# Altium footprint library PCBLIB.PcbLib: 1 footprints
Each footprint in its own frame and in the unit in brackets; x right, y up, seen from the top. Pads: shape width x height; smd on the part's side, far side on the other; paste and mask are expansions set on the pad; w line width, h text height; cw(c..) or ccw(c..) is an arc to the next point about the centre after c.
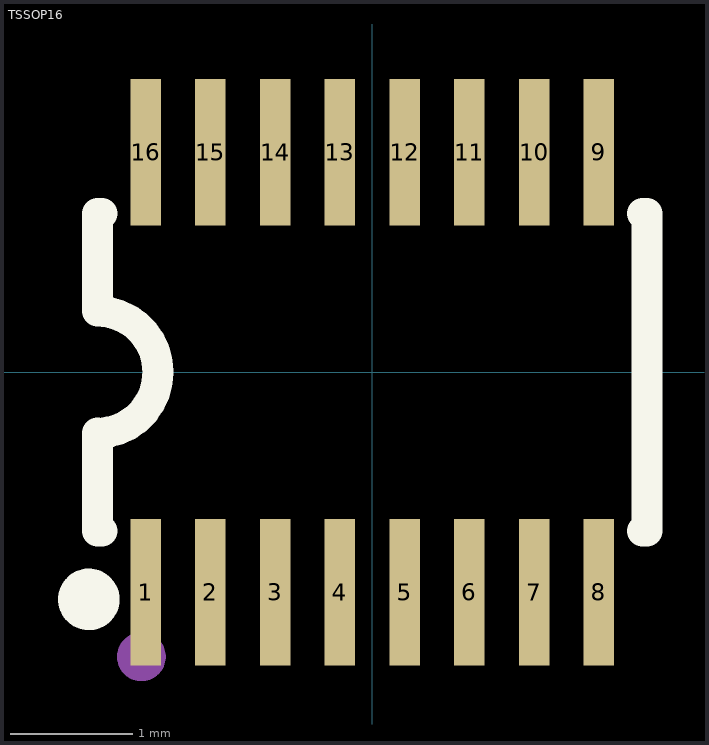
[diagram p0: the footprint, top view; thin cyan lines are the x and y axes]

## TSSOP16 [mm]
pads (16):
  rect 0.25x1.2 smd: 1(-1.855,-1.8) 2(-1.325,-1.8) 3(-0.795,-1.8) 4(-0.265,-1.8) 5(0.265,-1.8) 6(0.795,-1.8) 7(1.325,-1.8) 8(1.855,-1.8) 9(1.855,1.8) 10(1.325,1.8) 11(0.795,1.8) 12(0.265,1.8) 13(-0.265,1.8) 14(-0.795,1.8) 15(-1.325,1.8) 16(-1.855,1.8)
Top Overlay:
  circle w0.254: c-2.32,-1.86 r0.125
  lines w0.254: -2.211,-1.3 -2.25,-1.3 -2.25,-0.5 ccw(c-2.254,0) -2.25,0.5 -2.25,1.3 -2.211,1.3 ; 2.211,-1.3 2.25,-1.3 2.25,1.3 2.211,1.3
Mechanical 15:
  circle w0.2: c-1.89,-2.33 r0.1